# EAGLE library part 7432 (library dooba)
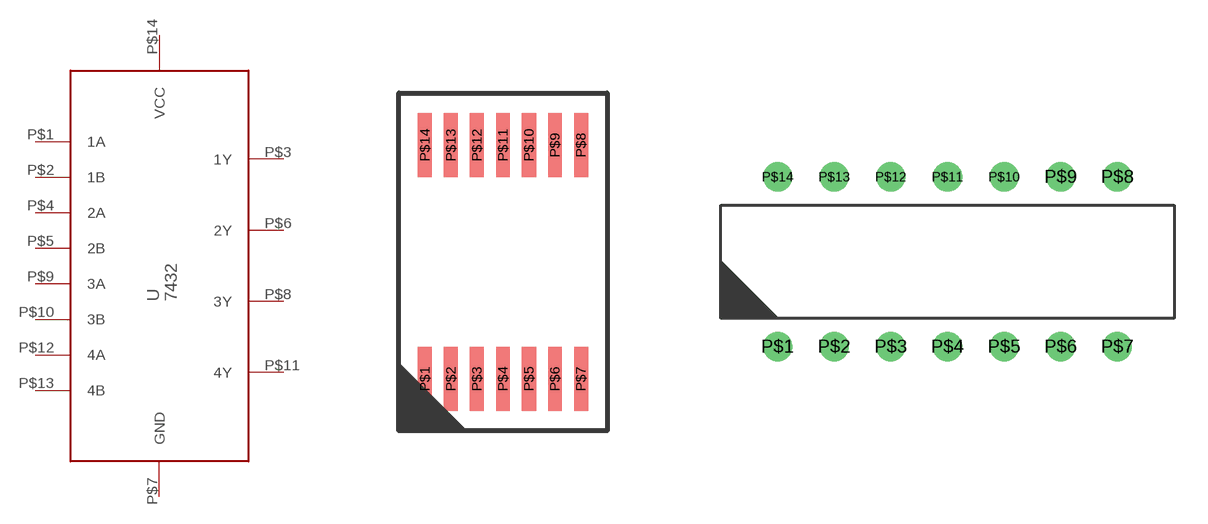
[diagram p40: symbol with the pads of TSSOP-14; footprints TSSOP-14, PDIP14]

Designator prefix U

## 7432TSSOP14  [TSSOP-14]
P$1  1A
P$2  1B
P$3  1Y
P$4  2A
P$5  2B
P$6  2Y
P$7  GND
P$8  3Y
P$9  3A
P$10  3B
P$11  4Y
P$12  4A
P$13  4B
P$14  VCC

## 7432PDIP  [PDIP14]
Pads as for TSSOP-14

## 7432SOIC  [SOIC14]
Pads as for TSSOP-14

## Footprint TSSOP-14 (pad centres in mm)
smd 0.35 x 1.6: P$1 -1.95,-2.925; P$2 -1.3,-2.925; P$3 -0.65,-2.925; P$4 0,-2.925; P$5 0.65,-2.925; P$6 1.3,-2.925; P$7 1.95,-2.925; P$8 1.95,2.925; P$9 1.3,2.925; P$10 0.65,2.925; P$11 0,2.925; P$12 -0.65,2.925; P$13 -1.3,2.925; P$14 -1.95,2.925

## Footprint PDIP14 (pad centres in mm)
drill 0.8: P$1 -7.62,-3.81; P$2 -5.08,-3.81; P$3 -2.54,-3.81; P$4 0,-3.81; P$5 2.54,-3.81; P$6 5.08,-3.81; P$7 7.62,-3.81; P$8 7.62,3.81; P$9 5.08,3.81; P$10 2.54,3.81; P$11 0,3.81; P$12 -2.54,3.81; P$13 -5.08,3.81; P$14 -7.62,3.81

## Footprint SOIC14 (pad centres in mm)
smd 0.55 x 1.5: P$1 -3.81,-2.7; P$2 -2.54,-2.7; P$3 -1.27,-2.7; P$4 0,-2.7; P$5 1.27,-2.7; P$6 2.54,-2.7; P$7 3.81,-2.7; P$8 3.81,2.7; P$9 2.54,2.7; P$10 1.27,2.7; P$11 0,2.7; P$12 -1.27,2.7; P$13 -2.54,2.7; P$14 -3.81,2.7